# Altium footprint library 贴片.PcbLib: 190 footprints (part 12 of 13)
Each footprint in its own frame and in the unit in brackets; x right, y up, seen from the top. Pads: shape width x height; smd on the part's side, far side on the other; paste and mask are expansions set on the pad; w line width, h text height; cw(c..) or ccw(c..) is an arc to the next point about the centre after c.
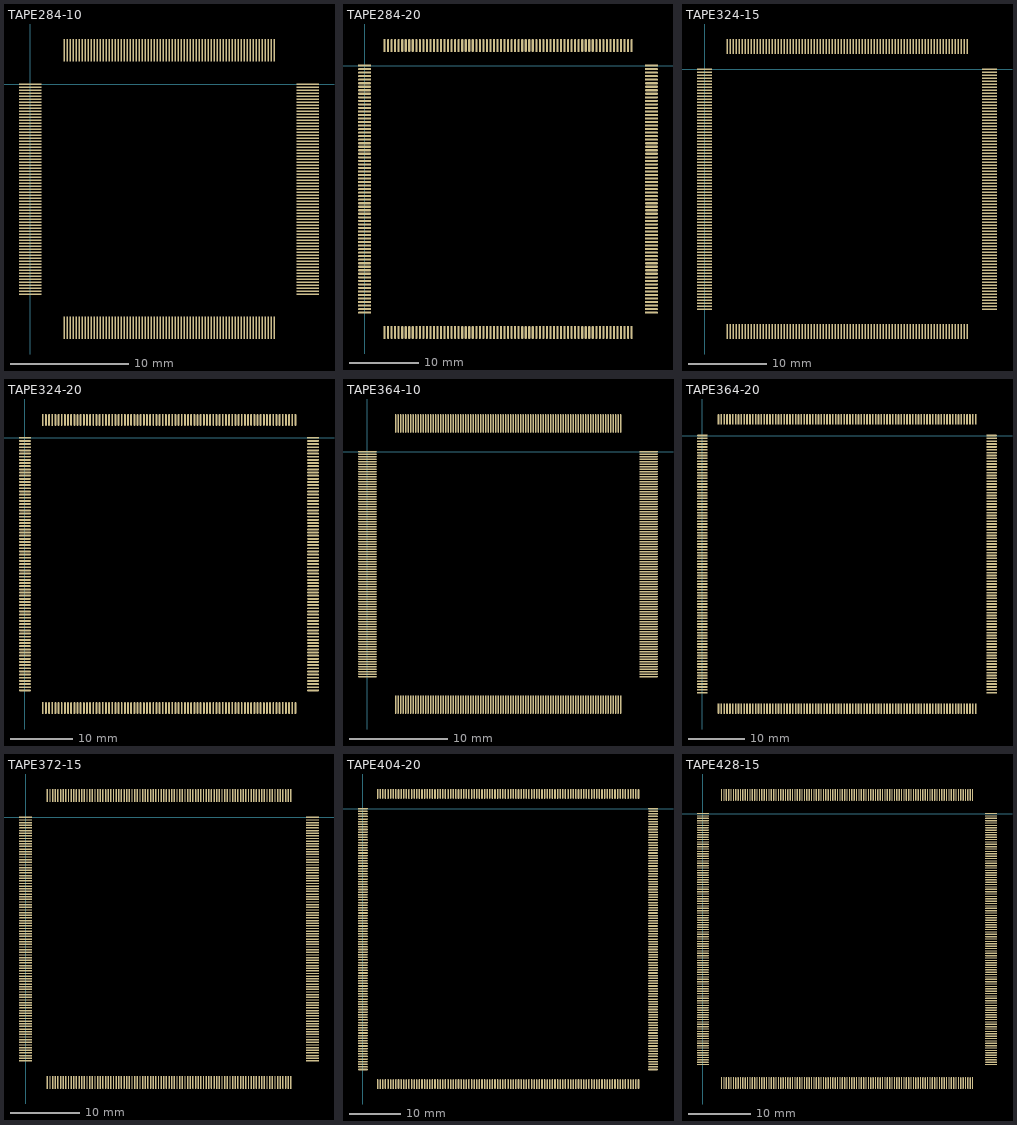
[diagram p11: the footprints below, top view; thin cyan lines are the x and y axes]

## TAPE284-10 [mil]
pads (284):
  oval 75x5 smd: 1(0,0) 2(0,-10) 3(0,-20) 4(0,-30) 5(0,-40) 6(0,-50) 7(0,-60) 8(0,-70) 9(0,-80) 10(0,-90) 11(0,-100) 12(0,-110) 13(0,-120) 14(0,-130) 15(0,-140) 16(0,-150) 17(0,-160) 18(0,-170) 19(0,-180) 20(0,-190) 21(0,-200) 22(0,-210) 23(0,-220) 24(0,-230) 25(0,-240) 26(0,-250) 27(0,-260) 28(0,-270) 29(0,-280) 30(0,-290) 31(0,-300) 32(0,-310) 33(0,-320) 34(0,-330) 35(0,-340) 36(0,-350) 37(0,-360) 38(0,-370) 39(0,-380) 40(0,-390) 41(0,-400) 42(0,-410) 43(0,-420) 44(0,-430) 45(0,-440) 46(0,-450) 47(0,-460) 48(0,-470) 49(0,-480) 50(0,-490) 51(0,-500) 52(0,-510) 53(0,-520) 54(0,-530) 55(0,-540) 56(0,-550) 57(0,-560) 58(0,-570) 59(0,-580) 60(0,-590) 61(0,-600) 62(0,-610) 63(0,-620) 64(0,-630) 65(0,-640) 66(0,-650) 67(0,-660) 68(0,-670) 69(0,-680) 70(0,-690) 71(0,-700) 143(925,-700) 144(925,-690) 145(925,-680) 146(925,-670) 147(925,-660) 148(925,-650) 149(925,-640) 150(925,-630) 151(925,-620) 152(925,-610) 153(925,-600) 154(925,-590) 155(925,-580) 156(925,-570) 157(925,-560) 158(925,-550) 159(925,-540) 160(925,-530) 161(925,-520) 162(925,-510) 163(925,-500) 164(925,-490) 165(925,-480) 166(925,-470) 167(925,-460) 168(925,-450) 169(925,-440) 170(925,-430) 171(925,-420) 172(925,-410) 173(925,-400) 174(925,-390) 175(925,-380) 176(925,-370) 177(925,-360) 178(925,-350) 179(925,-340) 180(925,-330) 181(925,-320) 182(925,-310) 183(925,-300) 184(925,-290) 185(925,-280) 186(925,-270) 187(925,-260) 188(925,-250) 189(925,-240) 190(925,-230) 191(925,-220) 192(925,-210) 193(925,-200) 194(925,-190) 195(925,-180) 196(925,-170) 197(925,-160) 198(925,-150) 199(925,-140) 200(925,-130) 201(925,-120) 202(925,-110) 203(925,-100) 204(925,-90) 205(925,-80) 206(925,-70) 207(925,-60) 208(925,-50) 209(925,-40) 210(925,-30) 211(925,-20) 212(925,-10) 213(925,0)
  oval 5x75 smd: 72(113,-812) 73(123,-812) 74(133,-812) 75(143,-812) 76(153,-812) 77(163,-812) 78(173,-812) 79(183,-812) 80(193,-812) 81(203,-812) 82(213,-812) 83(223,-812) 84(233,-812) 85(243,-812) 86(253,-812) 87(263,-812) 88(273,-812) 89(283,-812) 90(293,-812) 91(303,-812) 92(313,-812) 93(323,-812) 94(333,-812) 95(343,-812) 96(353,-812) 97(363,-812) 98(373,-812) 99(383,-812) 100(393,-812) 101(403,-812) 102(413,-812) 103(423,-812) 104(433,-812) 105(443,-812) 106(453,-812) 107(463,-812) 108(473,-812) 109(483,-812) 110(493,-812) 111(503,-812) 112(513,-812) 113(523,-812) 114(533,-812) 115(543,-812) 116(553,-812) 117(563,-812) 118(573,-812) 119(583,-812) 120(593,-812) 121(603,-812) 122(613,-812) 123(623,-812) 124(633,-812) 125(643,-812) 126(653,-812) 127(663,-812) 128(673,-812) 129(683,-812) 130(693,-812) 131(703,-812) 132(713,-812) 133(723,-812) 134(733,-812) 135(743,-812) 136(753,-812) 137(763,-812) 138(773,-812) 139(783,-812) 140(793,-812) 141(803,-812) 142(813,-812) 214(813,113) 215(803,113) 216(793,113) 217(783,113) 218(773,113) 219(763,113) 220(753,113) 221(743,113) 222(733,113) 223(723,113) 224(713,113) 225(703,113) 226(693,113) 227(683,113) 228(673,113) 229(663,113) 230(653,113) 231(643,113) 232(633,113) 233(623,113) 234(613,113) 235(603,113) 236(593,113) 237(583,113) 238(573,113) 239(563,113) 240(553,113) 241(543,113) 242(533,113) 243(523,113) 244(513,113) 245(503,113) 246(493,113) 247(483,113) 248(473,113) 249(463,113) 250(453,113) 251(443,113) 252(433,113) 253(423,113) 254(413,113) 255(403,113) 256(393,113) 257(383,113) 258(373,113) 259(363,113) 260(353,113) 261(343,113) 262(333,113) 263(323,113) 264(313,113) 265(303,113) 266(293,113) 267(283,113) 268(273,113) 269(263,113) 270(253,113) 271(243,113) 272(233,113) 273(223,113) 274(213,113) 275(203,113) 276(193,113) 277(183,113) 278(173,113) 279(163,113) 280(153,113) 281(143,113) 282(133,113) 283(123,113) 284(113,113)

## TAPE284-20 [mil]
pads (284):
  oval 75x12 smd: 1(0,0) 2(0,-20) 3(0,-40) 4(0,-60) 5(0,-80) 6(0,-100) 7(0,-120) 8(0,-140) 9(0,-160) 10(0,-180) 11(0,-200) 12(0,-220) 13(0,-240) 14(0,-260) 15(0,-280) 16(0,-300) 17(0,-320) 18(0,-340) 19(0,-360) 20(0,-380) 21(0,-400) 22(0,-420) 23(0,-440) 24(0,-460) 25(0,-480) 26(0,-500) 27(0,-520) 28(0,-540) 29(0,-560) 30(0,-580) 31(0,-600) 32(0,-620) 33(0,-640) 34(0,-660) 35(0,-680) 36(0,-700) 37(0,-720) 38(0,-740) 39(0,-760) 40(0,-780) 41(0,-800) 42(0,-820) 43(0,-840) 44(0,-860) 45(0,-880) 46(0,-900) 47(0,-920) 48(0,-940) 49(0,-960) 50(0,-980) 51(0,-1000) 52(0,-1020) 53(0,-1040) 54(0,-1060) 55(0,-1080) 56(0,-1100) 57(0,-1120) 58(0,-1140) 59(0,-1160) 60(0,-1180) 61(0,-1200) 62(0,-1220) 63(0,-1240) 64(0,-1260) 65(0,-1280) 66(0,-1300) 67(0,-1320) 68(0,-1340) 69(0,-1360) 70(0,-1380) 71(0,-1400) 143(1625,-1400) 144(1625,-1380) 145(1625,-1360) 146(1625,-1340) 147(1625,-1320) 148(1625,-1300) 149(1625,-1280) 150(1625,-1260) 151(1625,-1240) 152(1625,-1220) 153(1625,-1200) 154(1625,-1180) 155(1625,-1160) 156(1625,-1140) 157(1625,-1120) 158(1625,-1100) 159(1625,-1080) 160(1625,-1060) 161(1625,-1040) 162(1625,-1020) 163(1625,-1000) 164(1625,-980) 165(1625,-960) 166(1625,-940) 167(1625,-920) 168(1625,-900) 169(1625,-880) 170(1625,-860) 171(1625,-840) 172(1625,-820) 173(1625,-800) 174(1625,-780) 175(1625,-760) 176(1625,-740) 177(1625,-720) 178(1625,-700) 179(1625,-680) 180(1625,-660) 181(1625,-640) 182(1625,-620) 183(1625,-600) 184(1625,-580) 185(1625,-560) 186(1625,-540) 187(1625,-520) 188(1625,-500) 189(1625,-480) 190(1625,-460) 191(1625,-440) 192(1625,-420) 193(1625,-400) 194(1625,-380) 195(1625,-360) 196(1625,-340) 197(1625,-320) 198(1625,-300) 199(1625,-280) 200(1625,-260) 201(1625,-240) 202(1625,-220) 203(1625,-200) 204(1625,-180) 205(1625,-160) 206(1625,-140) 207(1625,-120) 208(1625,-100) 209(1625,-80) 210(1625,-60) 211(1625,-40) 212(1625,-20) 213(1625,0)
  oval 12x75 smd: 72(113,-1512) 73(133,-1512) 74(153,-1512) 75(173,-1512) 76(193,-1512) 77(213,-1512) 78(233,-1512) 79(253,-1512) 80(273,-1512) 81(293,-1512) 82(313,-1512) 83(333,-1512) 84(353,-1512) 85(373,-1512) 86(393,-1512) 87(413,-1512) 88(433,-1512) 89(453,-1512) 90(473,-1512) 91(493,-1512) 92(513,-1512) 93(533,-1512) 94(553,-1512) 95(573,-1512) 96(593,-1512) 97(613,-1512) 98(633,-1512) 99(653,-1512) 100(673,-1512) 101(693,-1512) 102(713,-1512) 103(733,-1512) 104(753,-1512) 105(773,-1512) 106(793,-1512) 107(813,-1512) 108(833,-1512) 109(853,-1512) 110(873,-1512) 111(893,-1512) 112(913,-1512) 113(933,-1512) 114(953,-1512) 115(973,-1512) 116(993,-1512) 117(1013,-1512) 118(1033,-1512) 119(1053,-1512) 120(1073,-1512) 121(1093,-1512) 122(1113,-1512) 123(1133,-1512) 124(1153,-1512) 125(1173,-1512) 126(1193,-1512) 127(1213,-1512) 128(1233,-1512) 129(1253,-1512) 130(1273,-1512) 131(1293,-1512) 132(1313,-1512) 133(1333,-1512) 134(1353,-1512) 135(1373,-1512) 136(1393,-1512) 137(1413,-1512) 138(1433,-1512) 139(1453,-1512) 140(1473,-1512) 141(1493,-1512) 142(1513,-1512) 214(1513,113) 215(1493,113) 216(1473,113) 217(1453,113) 218(1433,113) 219(1413,113) 220(1393,113) 221(1373,113) 222(1353,113) 223(1333,113) 224(1313,113) 225(1293,113) 226(1273,113) 227(1253,113) 228(1233,113) 229(1213,113) 230(1193,113) 231(1173,113) 232(1153,113) 233(1133,113) 234(1113,113) 235(1093,113) 236(1073,113) 237(1053,113) 238(1033,113) 239(1013,113) 240(993,113) 241(973,113) 242(953,113) 243(933,113) 244(913,113) 245(893,113) 246(873,113) 247(853,113) 248(833,113) 249(813,113) 250(793,113) 251(773,113) 252(753,113) 253(733,113) 254(713,113) 255(693,113) 256(673,113) 257(653,113) 258(633,113) 259(613,113) 260(593,113) 261(573,113) 262(553,113) 263(533,113) 264(513,113) 265(493,113) 266(473,113) 267(453,113) 268(433,113) 269(413,113) 270(393,113) 271(373,113) 272(353,113) 273(333,113) 274(313,113) 275(293,113) 276(273,113) 277(253,113) 278(233,113) 279(213,113) 280(193,113) 281(173,113) 282(153,113) 283(133,113) 284(113,113)

## TAPE324-15 [mil]
pads (324):
  oval 75x8 smd: 1(0,0) 2(0,-15) 3(0,-30) 4(0,-45) 5(0,-60) 6(0,-75) 7(0,-90) 8(0,-105) 9(0,-120) 10(0,-135) 11(0,-150) 12(0,-165) 13(0,-180) 14(0,-195) 15(0,-210) 16(0,-225) 17(0,-240) 18(0,-255) 19(0,-270) 20(0,-285) 21(0,-300) 22(0,-315) 23(0,-330) 24(0,-345) 25(0,-360) 26(0,-375) 27(0,-390) 28(0,-405) 29(0,-420) 30(0,-435) 31(0,-450) 32(0,-465) 33(0,-480) 34(0,-495) 35(0,-510) 36(0,-525) 37(0,-540) 38(0,-555) 39(0,-570) 40(0,-585) 41(0,-600) 42(0,-615) 43(0,-630) 44(0,-645) 45(0,-660) 46(0,-675) 47(0,-690) 48(0,-705) 49(0,-720) 50(0,-735) 51(0,-750) 52(0,-765) 53(0,-780) 54(0,-795) 55(0,-810) 56(0,-825) 57(0,-840) 58(0,-855) 59(0,-870) 60(0,-885) 61(0,-900) 62(0,-915) 63(0,-930) 64(0,-945) 65(0,-960) 66(0,-975) 67(0,-990) 68(0,-1005) 69(0,-1020) 70(0,-1035) 71(0,-1050) 72(0,-1065) 73(0,-1080) 74(0,-1095) 75(0,-1110) 76(0,-1125) 77(0,-1140) 78(0,-1155) 79(0,-1170) 80(0,-1185) 81(0,-1200) 163(1425,-1200) 164(1425,-1185) 165(1425,-1170) 166(1425,-1155) 167(1425,-1140) 168(1425,-1125) 169(1425,-1110) 170(1425,-1095) 171(1425,-1080) 172(1425,-1065) 173(1425,-1050) 174(1425,-1035) 175(1425,-1020) 176(1425,-1005) 177(1425,-990) 178(1425,-975) 179(1425,-960) 180(1425,-945) 181(1425,-930) 182(1425,-915) 183(1425,-900) 184(1425,-885) 185(1425,-870) 186(1425,-855) 187(1425,-840) 188(1425,-825) 189(1425,-810) 190(1425,-795) 191(1425,-780) 192(1425,-765) 193(1425,-750) 194(1425,-735) 195(1425,-720) 196(1425,-705) 197(1425,-690) 198(1425,-675) 199(1425,-660) 200(1425,-645) 201(1425,-630) 202(1425,-615) 203(1425,-600) 204(1425,-585) 205(1425,-570) 206(1425,-555) 207(1425,-540) 208(1425,-525) 209(1425,-510) 210(1425,-495) 211(1425,-480) 212(1425,-465) 213(1425,-450) 214(1425,-435) 215(1425,-420) 216(1425,-405) 217(1425,-390) 218(1425,-375) 219(1425,-360) 220(1425,-345) 221(1425,-330) 222(1425,-315) 223(1425,-300) 224(1425,-285) 225(1425,-270) 226(1425,-255) 227(1425,-240) 228(1425,-225) 229(1425,-210) 230(1425,-195) 231(1425,-180) 232(1425,-165) 233(1425,-150) 234(1425,-135) 235(1425,-120) 236(1425,-105) 237(1425,-90) 238(1425,-75) 239(1425,-60) 240(1425,-45) 241(1425,-30) 242(1425,-15) 243(1425,0)
  oval 8x75 smd: 82(113,-1312) 83(128,-1312) 84(143,-1312) 85(158,-1312) 86(173,-1312) 87(188,-1312) 88(203,-1312) 89(218,-1312) 90(233,-1312) 91(248,-1312) 92(263,-1312) 93(278,-1312) 94(293,-1312) 95(308,-1312) 96(323,-1312) 97(338,-1312) 98(353,-1312) 99(368,-1312) 100(383,-1312) 101(398,-1312) 102(413,-1312) 103(428,-1312) 104(443,-1312) 105(458,-1312) 106(473,-1312) 107(488,-1312) 108(503,-1312) 109(518,-1312) 110(533,-1312) 111(548,-1312) 112(563,-1312) 113(578,-1312) 114(593,-1312) 115(608,-1312) 116(623,-1312) 117(638,-1312) 118(653,-1312) 119(668,-1312) 120(683,-1312) 121(698,-1312) 122(713,-1312) 123(728,-1312) 124(743,-1312) 125(758,-1312) 126(773,-1312) 127(788,-1312) 128(803,-1312) 129(818,-1312) 130(833,-1312) 131(848,-1312) 132(863,-1312) 133(878,-1312) 134(893,-1312) 135(908,-1312) 136(923,-1312) 137(938,-1312) 138(953,-1312) 139(968,-1312) 140(983,-1312) 141(998,-1312) 142(1013,-1312) 143(1028,-1312) 144(1043,-1312) 145(1058,-1312) 146(1073,-1312) 147(1088,-1312) 148(1103,-1312) 149(1118,-1312) 150(1133,-1312) 151(1148,-1312) 152(1163,-1312) 153(1178,-1312) 154(1193,-1312) 155(1208,-1312) 156(1223,-1312) 157(1238,-1312) 158(1253,-1312) 159(1268,-1312) 160(1283,-1312) 161(1298,-1312) 162(1313,-1312) 244(1313,113) 245(1298,113) 246(1283,113) 247(1268,113) 248(1253,113) 249(1238,113) 250(1223,113) 251(1208,113) 252(1193,113) 253(1178,113) 254(1163,113) 255(1148,113) 256(1133,113) 257(1118,113) 258(1103,113) 259(1088,113) 260(1073,113) 261(1058,113) 262(1043,113) 263(1028,113) 264(1013,113) 265(998,113) 266(983,113) 267(968,113) 268(953,113) 269(938,113) 270(923,113) 271(908,113) 272(893,113) 273(878,113) 274(863,113) 275(848,113) 276(833,113) 277(818,113) 278(803,113) 279(788,113) 280(773,113) 281(758,113) 282(743,113) 283(728,113) 284(713,113) 285(698,113) 286(683,113) 287(668,113) 288(653,113) 289(638,113) 290(623,113) 291(608,113) 292(593,113) 293(578,113) 294(563,113) 295(548,113) 296(533,113) 297(518,113) 298(503,113) 299(488,113) 300(473,113) 301(458,113) 302(443,113) 303(428,113) 304(413,113) 305(398,113) 306(383,113) 307(368,113) 308(353,113) 309(338,113) 310(323,113) 311(308,113) 312(293,113) 313(278,113) 314(263,113) 315(248,113) 316(233,113) 317(218,113) 318(203,113) 319(188,113) 320(173,113) 321(158,113) 322(143,113) 323(128,113) 324(113,113)

## TAPE324-20 [mil]
pads (324):
  oval 75x12 smd: 1(0,0) 2(0,-20) 3(0,-40) 4(0,-60) 5(0,-80) 6(0,-100) 7(0,-120) 8(0,-140) 9(0,-160) 10(0,-180) 11(0,-200) 12(0,-220) 13(0,-240) 14(0,-260) 15(0,-280) 16(0,-300) 17(0,-320) 18(0,-340) 19(0,-360) 20(0,-380) 21(0,-400) 22(0,-420) 23(0,-440) 24(0,-460) 25(0,-480) 26(0,-500) 27(0,-520) 28(0,-540) 29(0,-560) 30(0,-580) 31(0,-600) 32(0,-620) 33(0,-640) 34(0,-660) 35(0,-680) 36(0,-700) 37(0,-720) 38(0,-740) 39(0,-760) 40(0,-780) 41(0,-800) 42(0,-820) 43(0,-840) 44(0,-860) 45(0,-880) 46(0,-900) 47(0,-920) 48(0,-940) 49(0,-960) 50(0,-980) 51(0,-1000) 52(0,-1020) 53(0,-1040) 54(0,-1060) 55(0,-1080) 56(0,-1100) 57(0,-1120) 58(0,-1140) 59(0,-1160) 60(0,-1180) 61(0,-1200) 62(0,-1220) 63(0,-1240) 64(0,-1260) 65(0,-1280) 66(0,-1300) 67(0,-1320) 68(0,-1340) 69(0,-1360) 70(0,-1380) 71(0,-1400) 72(0,-1420) 73(0,-1440) 74(0,-1460) 75(0,-1480) 76(0,-1500) 77(0,-1520) 78(0,-1540) 79(0,-1560) 80(0,-1580) 81(0,-1600) 163(1825,-1600) 164(1825,-1580) 165(1825,-1560) 166(1825,-1540) 167(1825,-1520) 168(1825,-1500) 169(1825,-1480) 170(1825,-1460) 171(1825,-1440) 172(1825,-1420) 173(1825,-1400) 174(1825,-1380) 175(1825,-1360) 176(1825,-1340) 177(1825,-1320) 178(1825,-1300) 179(1825,-1280) 180(1825,-1260) 181(1825,-1240) 182(1825,-1220) 183(1825,-1200) 184(1825,-1180) 185(1825,-1160) 186(1825,-1140) 187(1825,-1120) 188(1825,-1100) 189(1825,-1080) 190(1825,-1060) 191(1825,-1040) 192(1825,-1020) 193(1825,-1000) 194(1825,-980) 195(1825,-960) 196(1825,-940) 197(1825,-920) 198(1825,-900) 199(1825,-880) 200(1825,-860) 201(1825,-840) 202(1825,-820) 203(1825,-800) 204(1825,-780) 205(1825,-760) 206(1825,-740) 207(1825,-720) 208(1825,-700) 209(1825,-680) 210(1825,-660) 211(1825,-640) 212(1825,-620) 213(1825,-600) 214(1825,-580) 215(1825,-560) 216(1825,-540) 217(1825,-520) 218(1825,-500) 219(1825,-480) 220(1825,-460) 221(1825,-440) 222(1825,-420) 223(1825,-400) 224(1825,-380) 225(1825,-360) 226(1825,-340) 227(1825,-320) 228(1825,-300) 229(1825,-280) 230(1825,-260) 231(1825,-240) 232(1825,-220) 233(1825,-200) 234(1825,-180) 235(1825,-160) 236(1825,-140) 237(1825,-120) 238(1825,-100) 239(1825,-80) 240(1825,-60) 241(1825,-40) 242(1825,-20) 243(1825,0)
  oval 12x75 smd: 82(113,-1712) 83(133,-1712) 84(153,-1712) 85(173,-1712) 86(193,-1712) 87(213,-1712) 88(233,-1712) 89(253,-1712) 90(273,-1712) 91(293,-1712) 92(313,-1712) 93(333,-1712) 94(353,-1712) 95(373,-1712) 96(393,-1712) 97(413,-1712) 98(433,-1712) 99(453,-1712) 100(473,-1712) 101(493,-1712) 102(513,-1712) 103(533,-1712) 104(553,-1712) 105(573,-1712) 106(593,-1712) 107(613,-1712) 108(633,-1712) 109(653,-1712) 110(673,-1712) 111(693,-1712) 112(713,-1712) 113(733,-1712) 114(753,-1712) 115(773,-1712) 116(793,-1712) 117(813,-1712) 118(833,-1712) 119(853,-1712) 120(873,-1712) 121(893,-1712) 122(913,-1712) 123(933,-1712) 124(953,-1712) 125(973,-1712) 126(993,-1712) 127(1013,-1712) 128(1033,-1712) 129(1053,-1712) 130(1073,-1712) 131(1093,-1712) 132(1113,-1712) 133(1133,-1712) 134(1153,-1712) 135(1173,-1712) 136(1193,-1712) 137(1213,-1712) 138(1233,-1712) 139(1253,-1712) 140(1273,-1712) 141(1293,-1712) 142(1313,-1712) 143(1333,-1712) 144(1353,-1712) 145(1373,-1712) 146(1393,-1712) 147(1413,-1712) 148(1433,-1712) 149(1453,-1712) 150(1473,-1712) 151(1493,-1712) 152(1513,-1712) 153(1533,-1712) 154(1553,-1712) 155(1573,-1712) 156(1593,-1712) 157(1613,-1712) 158(1633,-1712) 159(1653,-1712) 160(1673,-1712) 161(1693,-1712) 162(1713,-1712) 244(1713,113) 245(1693,113) 246(1673,113) 247(1653,113) 248(1633,113) 249(1613,113) 250(1593,113) 251(1573,113) 252(1553,113) 253(1533,113) 254(1513,113) 255(1493,113) 256(1473,113) 257(1453,113) 258(1433,113) 259(1413,113) 260(1393,113) 261(1373,113) 262(1353,113) 263(1333,113) 264(1313,113) 265(1293,113) 266(1273,113) 267(1253,113) 268(1233,113) 269(1213,113) 270(1193,113) 271(1173,113) 272(1153,113) 273(1133,113) 274(1113,113) 275(1093,113) 276(1073,113) 277(1053,113) 278(1033,113) 279(1013,113) 280(993,113) 281(973,113) 282(953,113) 283(933,113) 284(913,113) 285(893,113) 286(873,113) 287(853,113) 288(833,113) 289(813,113) 290(793,113) 291(773,113) 292(753,113) 293(733,113) 294(713,113) 295(693,113) 296(673,113) 297(653,113) 298(633,113) 299(613,113) 300(593,113) 301(573,113) 302(553,113) 303(533,113) 304(513,113) 305(493,113) 306(473,113) 307(453,113) 308(433,113) 309(413,113) 310(393,113) 311(373,113) 312(353,113) 313(333,113) 314(313,113) 315(293,113) 316(273,113) 317(253,113) 318(233,113) 319(213,113) 320(193,113) 321(173,113) 322(153,113) 323(133,113) 324(113,113)

## TAPE364-10 [mil]
pads (364):
  oval 75x5 smd: 1(0,0) 2(0,-10) 3(0,-20) 4(0,-30) 5(0,-40) 6(0,-50) 7(0,-60) 8(0,-70) 9(0,-80) 10(0,-90) 11(0,-100) 12(0,-110) 13(0,-120) 14(0,-130) 15(0,-140) 16(0,-150) 17(0,-160) 18(0,-170) 19(0,-180) 20(0,-190) 21(0,-200) 22(0,-210) 23(0,-220) 24(0,-230) 25(0,-240) 26(0,-250) 27(0,-260) 28(0,-270) 29(0,-280) 30(0,-290) 31(0,-300) 32(0,-310) 33(0,-320) 34(0,-330) 35(0,-340) 36(0,-350) 37(0,-360) 38(0,-370) 39(0,-380) 40(0,-390) 41(0,-400) 42(0,-410) 43(0,-420) 44(0,-430) 45(0,-440) 46(0,-450) 47(0,-460) 48(0,-470) 49(0,-480) 50(0,-490) 51(0,-500) 52(0,-510) 53(0,-520) 54(0,-530) 55(0,-540) 56(0,-550) 57(0,-560) 58(0,-570) 59(0,-580) 60(0,-590) 61(0,-600) 62(0,-610) 63(0,-620) 64(0,-630) 65(0,-640) 66(0,-650) 67(0,-660) 68(0,-670) 69(0,-680) 70(0,-690) 71(0,-700) 72(0,-710) 73(0,-720) 74(0,-730) 75(0,-740) 76(0,-750) 77(0,-760) 78(0,-770) 79(0,-780) 80(0,-790) 81(0,-800) 82(0,-810) 83(0,-820) 84(0,-830) 85(0,-840) 86(0,-850) 87(0,-860) 88(0,-870) 89(0,-880) 90(0,-890) 91(0,-900) 183(1125,-900) 184(1125,-890) 185(1125,-880) 186(1125,-870) 187(1125,-860) 188(1125,-850) 189(1125,-840) 190(1125,-830) 191(1125,-820) 192(1125,-810) 193(1125,-800) 194(1125,-790) 195(1125,-780) 196(1125,-770) 197(1125,-760) 198(1125,-750) 199(1125,-740) 200(1125,-730) 201(1125,-720) 202(1125,-710) 203(1125,-700) 204(1125,-690) 205(1125,-680) 206(1125,-670) 207(1125,-660) 208(1125,-650) 209(1125,-640) 210(1125,-630) 211(1125,-620) 212(1125,-610) 213(1125,-600) 214(1125,-590) 215(1125,-580) 216(1125,-570) 217(1125,-560) 218(1125,-550) 219(1125,-540) 220(1125,-530) 221(1125,-520) 222(1125,-510) 223(1125,-500) 224(1125,-490) 225(1125,-480) 226(1125,-470) 227(1125,-460) 228(1125,-450) 229(1125,-440) 230(1125,-430) 231(1125,-420) 232(1125,-410) 233(1125,-400) 234(1125,-390) 235(1125,-380) 236(1125,-370) 237(1125,-360) 238(1125,-350) 239(1125,-340) 240(1125,-330) 241(1125,-320) 242(1125,-310) 243(1125,-300) 244(1125,-290) 245(1125,-280) 246(1125,-270) 247(1125,-260) 248(1125,-250) 249(1125,-240) 250(1125,-230) 251(1125,-220) 252(1125,-210) 253(1125,-200) 254(1125,-190) 255(1125,-180) 256(1125,-170) 257(1125,-160) 258(1125,-150) 259(1125,-140) 260(1125,-130) 261(1125,-120) 262(1125,-110) 263(1125,-100) 264(1125,-90) 265(1125,-80) 266(1125,-70) 267(1125,-60) 268(1125,-50) 269(1125,-40) 270(1125,-30) 271(1125,-20) 272(1125,-10) 273(1125,0)
  oval 5x75 smd: 92(113,-1012) 93(123,-1012) 94(133,-1012) 95(143,-1012) 96(153,-1012) 97(163,-1012) 98(173,-1012) 99(183,-1012) 100(193,-1012) 101(203,-1012) 102(213,-1012) 103(223,-1012) 104(233,-1012) 105(243,-1012) 106(253,-1012) 107(263,-1012) 108(273,-1012) 109(283,-1012) 110(293,-1012) 111(303,-1012) 112(313,-1012) 113(323,-1012) 114(333,-1012) 115(343,-1012) 116(353,-1012) 117(363,-1012) 118(373,-1012) 119(383,-1012) 120(393,-1012) 121(403,-1012) 122(413,-1012) 123(423,-1012) 124(433,-1012) 125(443,-1012) 126(453,-1012) 127(463,-1012) 128(473,-1012) 129(483,-1012) 130(493,-1012) 131(503,-1012) 132(513,-1012) 133(523,-1012) 134(533,-1012) 135(543,-1012) 136(553,-1012) 137(563,-1012) 138(573,-1012) 139(583,-1012) 140(593,-1012) 141(603,-1012) 142(613,-1012) 143(623,-1012) 144(633,-1012) 145(643,-1012) 146(653,-1012) 147(663,-1012) 148(673,-1012) 149(683,-1012) 150(693,-1012) 151(703,-1012) 152(713,-1012) 153(723,-1012) 154(733,-1012) 155(743,-1012) 156(753,-1012) 157(763,-1012) 158(773,-1012) 159(783,-1012) 160(793,-1012) 161(803,-1012) 162(813,-1012) 163(823,-1012) 164(833,-1012) 165(843,-1012) 166(853,-1012) 167(863,-1012) 168(873,-1012) 169(883,-1012) 170(893,-1012) 171(903,-1012) 172(913,-1012) 173(923,-1012) 174(933,-1012) 175(943,-1012) 176(953,-1012) 177(963,-1012) 178(973,-1012) 179(983,-1012) 180(993,-1012) 181(1003,-1012) 182(1013,-1012) 274(1013,113) 275(1003,113) 276(993,113) 277(983,113) 278(973,113) 279(963,113) 280(953,113) 281(943,113) 282(933,113) 283(923,113) 284(913,113) 285(903,113) 286(893,113) 287(883,113) 288(873,113) 289(863,113) 290(853,113) 291(843,113) 292(833,113) 293(823,113) 294(813,113) 295(803,113) 296(793,113) 297(783,113) 298(773,113) 299(763,113) 300(753,113) 301(743,113) 302(733,113) 303(723,113) 304(713,113) 305(703,113) 306(693,113) 307(683,113) 308(673,113) 309(663,113) 310(653,113) 311(643,113) 312(633,113) 313(623,113) 314(613,113) 315(603,113) 316(593,113) 317(583,113) 318(573,113) 319(563,113) 320(553,113) 321(543,113) 322(533,113) 323(523,113) 324(513,113) 325(503,113) 326(493,113) 327(483,113) 328(473,113) 329(463,113) 330(453,113) 331(443,113) 332(433,113) 333(423,113) 334(413,113) 335(403,113) 336(393,113) 337(383,113) 338(373,113) 339(363,113) 340(353,113) 341(343,113) 342(333,113) 343(323,113) 344(313,113) 345(303,113) 346(293,113) 347(283,113) 348(273,113) 349(263,113) 350(253,113) 351(243,113) 352(233,113) 353(223,113) 354(213,113) 355(203,113) 356(193,113) 357(183,113) 358(173,113) 359(163,113) 360(153,113) 361(143,113) 362(133,113) 363(123,113) 364(113,113)

## TAPE364-20 [mil]
pads (364):
  oval 75x12 smd: 1(0,0) 2(0,-20) 3(0,-40) 4(0,-60) 5(0,-80) 6(0,-100) 7(0,-120) 8(0,-140) 9(0,-160) 10(0,-180) 11(0,-200) 12(0,-220) 13(0,-240) 14(0,-260) 15(0,-280) 16(0,-300) 17(0,-320) 18(0,-340) 19(0,-360) 20(0,-380) 21(0,-400) 22(0,-420) 23(0,-440) 24(0,-460) 25(0,-480) 26(0,-500) 27(0,-520) 28(0,-540) 29(0,-560) 30(0,-580) 31(0,-600) 32(0,-620) 33(0,-640) 34(0,-660) 35(0,-680) 36(0,-700) 37(0,-720) 38(0,-740) 39(0,-760) 40(0,-780) 41(0,-800) 42(0,-820) 43(0,-840) 44(0,-860) 45(0,-880) 46(0,-900) 47(0,-920) 48(0,-940) 49(0,-960) 50(0,-980) 51(0,-1000) 52(0,-1020) 53(0,-1040) 54(0,-1060) 55(0,-1080) 56(0,-1100) 57(0,-1120) 58(0,-1140) 59(0,-1160) 60(0,-1180) 61(0,-1200) 62(0,-1220) 63(0,-1240) 64(0,-1260) 65(0,-1280) 66(0,-1300) 67(0,-1320) 68(0,-1340) 69(0,-1360) 70(0,-1380) 71(0,-1400) 72(0,-1420) 73(0,-1440) 74(0,-1460) 75(0,-1480) 76(0,-1500) 77(0,-1520) 78(0,-1540) 79(0,-1560) 80(0,-1580) 81(0,-1600) 82(0,-1620) 83(0,-1640) 84(0,-1660) 85(0,-1680) 86(0,-1700) 87(0,-1720) 88(0,-1740) 89(0,-1760) 90(0,-1780) 91(0,-1800) 183(2025,-1800) 184(2025,-1780) 185(2025,-1760) 186(2025,-1740) 187(2025,-1720) 188(2025,-1700) 189(2025,-1680) 190(2025,-1660) 191(2025,-1640) 192(2025,-1620) 193(2025,-1600) 194(2025,-1580) 195(2025,-1560) 196(2025,-1540) 197(2025,-1520) 198(2025,-1500) 199(2025,-1480) 200(2025,-1460) 201(2025,-1440) 202(2025,-1420) 203(2025,-1400) 204(2025,-1380) 205(2025,-1360) 206(2025,-1340) 207(2025,-1320) 208(2025,-1300) 209(2025,-1280) 210(2025,-1260) 211(2025,-1240) 212(2025,-1220) 213(2025,-1200) 214(2025,-1180) 215(2025,-1160) 216(2025,-1140) 217(2025,-1120) 218(2025,-1100) 219(2025,-1080) 220(2025,-1060) 221(2025,-1040) 222(2025,-1020) 223(2025,-1000) 224(2025,-980) 225(2025,-960) 226(2025,-940) 227(2025,-920) 228(2025,-900) 229(2025,-880) 230(2025,-860) 231(2025,-840) 232(2025,-820) 233(2025,-800) 234(2025,-780) 235(2025,-760) 236(2025,-740) 237(2025,-720) 238(2025,-700) 239(2025,-680) 240(2025,-660) 241(2025,-640) 242(2025,-620) 243(2025,-600) 244(2025,-580) 245(2025,-560) 246(2025,-540) 247(2025,-520) 248(2025,-500) 249(2025,-480) 250(2025,-460) 251(2025,-440) 252(2025,-420) 253(2025,-400) 254(2025,-380) 255(2025,-360) 256(2025,-340) 257(2025,-320) 258(2025,-300) 259(2025,-280) 260(2025,-260) 261(2025,-240) 262(2025,-220) 263(2025,-200) 264(2025,-180) 265(2025,-160) 266(2025,-140) 267(2025,-120) 268(2025,-100) 269(2025,-80) 270(2025,-60) 271(2025,-40) 272(2025,-20) 273(2025,0)
  oval 12x75 smd: 92(113,-1912) 93(133,-1912) 94(153,-1912) 95(173,-1912) 96(193,-1912) 97(213,-1912) 98(233,-1912) 99(253,-1912) 100(273,-1912) 101(293,-1912) 102(313,-1912) 103(333,-1912) 104(353,-1912) 105(373,-1912) 106(393,-1912) 107(413,-1912) 108(433,-1912) 109(453,-1912) 110(473,-1912) 111(493,-1912) 112(513,-1912) 113(533,-1912) 114(553,-1912) 115(573,-1912) 116(593,-1912) 117(613,-1912) 118(633,-1912) 119(653,-1912) 120(673,-1912) 121(693,-1912) 122(713,-1912) 123(733,-1912) 124(753,-1912) 125(773,-1912) 126(793,-1912) 127(813,-1912) 128(833,-1912) 129(853,-1912) 130(873,-1912) 131(893,-1912) 132(913,-1912) 133(933,-1912) 134(953,-1912) 135(973,-1912) 136(993,-1912) 137(1013,-1912) 138(1033,-1912) 139(1053,-1912) 140(1073,-1912) 141(1093,-1912) 142(1113,-1912) 143(1133,-1912) 144(1153,-1912) 145(1173,-1912) 146(1193,-1912) 147(1213,-1912) 148(1233,-1912) 149(1253,-1912) 150(1273,-1912) 151(1293,-1912) 152(1313,-1912) 153(1333,-1912) 154(1353,-1912) 155(1373,-1912) 156(1393,-1912) 157(1413,-1912) 158(1433,-1912) 159(1453,-1912) 160(1473,-1912) 161(1493,-1912) 162(1513,-1912) 163(1533,-1912) 164(1553,-1912) 165(1573,-1912) 166(1593,-1912) 167(1613,-1912) 168(1633,-1912) 169(1653,-1912) 170(1673,-1912) 171(1693,-1912) 172(1713,-1912) 173(1733,-1912) 174(1753,-1912) 175(1773,-1912) 176(1793,-1912) 177(1813,-1912) 178(1833,-1912) 179(1853,-1912) 180(1873,-1912) 181(1893,-1912) 182(1913,-1912) 274(1913,113) 275(1893,113) 276(1873,113) 277(1853,113) 278(1833,113) 279(1813,113) 280(1793,113) 281(1773,113) 282(1753,113) 283(1733,113) 284(1713,113) 285(1693,113) 286(1673,113) 287(1653,113) 288(1633,113) 289(1613,113) 290(1593,113) 291(1573,113) 292(1553,113) 293(1533,113) 294(1513,113) 295(1493,113) 296(1473,113) 297(1453,113) 298(1433,113) 299(1413,113) 300(1393,113) 301(1373,113) 302(1353,113) 303(1333,113) 304(1313,113) 305(1293,113) 306(1273,113) 307(1253,113) 308(1233,113) 309(1213,113) 310(1193,113) 311(1173,113) 312(1153,113) 313(1133,113) 314(1113,113) 315(1093,113) 316(1073,113) 317(1053,113) 318(1033,113) 319(1013,113) 320(993,113) 321(973,113) 322(953,113) 323(933,113) 324(913,113) 325(893,113) 326(873,113) 327(853,113) 328(833,113) 329(813,113) 330(793,113) 331(773,113) 332(753,113) 333(733,113) 334(713,113) 335(693,113) 336(673,113) 337(653,113) 338(633,113) 339(613,113) 340(593,113) 341(573,113) 342(553,113) 343(533,113) 344(513,113) 345(493,113) 346(473,113) 347(453,113) 348(433,113) 349(413,113) 350(393,113) 351(373,113) 352(353,113) 353(333,113) 354(313,113) 355(293,113) 356(273,113) 357(253,113) 358(233,113) 359(213,113) 360(193,113) 361(173,113) 362(153,113) 363(133,113) 364(113,113)

## TAPE372-15 [mil]
pads (372):
  oval 75x8 smd: 1(0,0) 2(0,-15) 3(0,-30) 4(0,-45) 5(0,-60) 6(0,-75) 7(0,-90) 8(0,-105) 9(0,-120) 10(0,-135) 11(0,-150) 12(0,-165) 13(0,-180) 14(0,-195) 15(0,-210) 16(0,-225) 17(0,-240) 18(0,-255) 19(0,-270) 20(0,-285) 21(0,-300) 22(0,-315) 23(0,-330) 24(0,-345) 25(0,-360) 26(0,-375) 27(0,-390) 28(0,-405) 29(0,-420) 30(0,-435) 31(0,-450) 32(0,-465) 33(0,-480) 34(0,-495) 35(0,-510) 36(0,-525) 37(0,-540) 38(0,-555) 39(0,-570) 40(0,-585) 41(0,-600) 42(0,-615) 43(0,-630) 44(0,-645) 45(0,-660) 46(0,-675) 47(0,-690) 48(0,-705) 49(0,-720) 50(0,-735) 51(0,-750) 52(0,-765) 53(0,-780) 54(0,-795) 55(0,-810) 56(0,-825) 57(0,-840) 58(0,-855) 59(0,-870) 60(0,-885) 61(0,-900) 62(0,-915) 63(0,-930) 64(0,-945) 65(0,-960) 66(0,-975) 67(0,-990) 68(0,-1005) 69(0,-1020) 70(0,-1035) 71(0,-1050) 72(0,-1065) 73(0,-1080) 74(0,-1095) 75(0,-1110) 76(0,-1125) 77(0,-1140) 78(0,-1155) 79(0,-1170) 80(0,-1185) 81(0,-1200) 82(0,-1215) 83(0,-1230) 84(0,-1245) 85(0,-1260) 86(0,-1275) 87(0,-1290) 88(0,-1305) 89(0,-1320) 90(0,-1335) 91(0,-1350) 92(0,-1365) 93(0,-1380) 187(1625,-1380) 188(1625,-1365) 189(1625,-1350) 190(1625,-1335) 191(1625,-1320) 192(1625,-1305) 193(1625,-1290) 194(1625,-1275) 195(1625,-1260) 196(1625,-1245) 197(1625,-1230) 198(1625,-1215) 199(1625,-1200) 200(1625,-1185) 201(1625,-1170) 202(1625,-1155) 203(1625,-1140) 204(1625,-1125) 205(1625,-1110) 206(1625,-1095) 207(1625,-1080) 208(1625,-1065) 209(1625,-1050) 210(1625,-1035) 211(1625,-1020) 212(1625,-1005) 213(1625,-990) 214(1625,-975) 215(1625,-960) 216(1625,-945) 217(1625,-930) 218(1625,-915) 219(1625,-900) 220(1625,-885) 221(1625,-870) 222(1625,-855) 223(1625,-840) 224(1625,-825) 225(1625,-810) 226(1625,-795) 227(1625,-780) 228(1625,-765) 229(1625,-750) 230(1625,-735) 231(1625,-720) 232(1625,-705) 233(1625,-690) 234(1625,-675) 235(1625,-660) 236(1625,-645) 237(1625,-630) 238(1625,-615) 239(1625,-600) 240(1625,-585) 241(1625,-570) 242(1625,-555) 243(1625,-540) 244(1625,-525) 245(1625,-510) 246(1625,-495) 247(1625,-480) 248(1625,-465) 249(1625,-450) 250(1625,-435) 251(1625,-420) 252(1625,-405) 253(1625,-390) 254(1625,-375) 255(1625,-360) 256(1625,-345) 257(1625,-330) 258(1625,-315) 259(1625,-300) 260(1625,-285) 261(1625,-270) 262(1625,-255) 263(1625,-240) 264(1625,-225) 265(1625,-210) 266(1625,-195) 267(1625,-180) 268(1625,-165) 269(1625,-150) 270(1625,-135) 271(1625,-120) 272(1625,-105) 273(1625,-90) 274(1625,-75) 275(1625,-60) 276(1625,-45) 277(1625,-30) 278(1625,-15) 279(1625,0)
  oval 8x75 smd: 94(123,-1502) 95(138,-1502) 96(153,-1502) 97(168,-1502) 98(183,-1502) 99(198,-1502) 100(213,-1502) 101(228,-1502) 102(243,-1502) 103(258,-1502) 104(273,-1502) 105(288,-1502) 106(303,-1502) 107(318,-1502) 108(333,-1502) 109(348,-1502) 110(363,-1502) 111(378,-1502) 112(393,-1502) 113(408,-1502) 114(423,-1502) 115(438,-1502) 116(453,-1502) 117(468,-1502) 118(483,-1502) 119(498,-1502) 120(513,-1502) 121(528,-1502) 122(543,-1502) 123(558,-1502) 124(573,-1502) 125(588,-1502) 126(603,-1502) 127(618,-1502) 128(633,-1502) 129(648,-1502) 130(663,-1502) 131(678,-1502) 132(693,-1502) 133(708,-1502) 134(723,-1502) 135(738,-1502) 136(753,-1502) 137(768,-1502) 138(783,-1502) 139(798,-1502) 140(813,-1502) 141(828,-1502) 142(843,-1502) 143(858,-1502) 144(873,-1502) 145(888,-1502) 146(903,-1502) 147(918,-1502) 148(933,-1502) 149(948,-1502) 150(963,-1502) 151(978,-1502) 152(993,-1502) 153(1008,-1502) 154(1023,-1502) 155(1038,-1502) 156(1053,-1502) 157(1068,-1502) 158(1083,-1502) 159(1098,-1502) 160(1113,-1502) 161(1128,-1502) 162(1143,-1502) 163(1158,-1502) 164(1173,-1502) 165(1188,-1502) 166(1203,-1502) 167(1218,-1502) 168(1233,-1502) 169(1248,-1502) 170(1263,-1502) 171(1278,-1502) 172(1293,-1502) 173(1308,-1502) 174(1323,-1502) 175(1338,-1502) 176(1353,-1502) 177(1368,-1502) 178(1383,-1502) 179(1398,-1502) 180(1413,-1502) 181(1428,-1502) 182(1443,-1502) 183(1458,-1502) 184(1473,-1502) 185(1488,-1502) 186(1503,-1502) 280(1503,123) 281(1488,123) 282(1473,123) 283(1458,123) 284(1443,123) 285(1428,123) 286(1413,123) 287(1398,123) 288(1383,123) 289(1368,123) 290(1353,123) 291(1338,123) 292(1323,123) 293(1308,123) 294(1293,123) 295(1278,123) 296(1263,123) 297(1248,123) 298(1233,123) 299(1218,123) 300(1203,123) 301(1188,123) 302(1173,123) 303(1158,123) 304(1143,123) 305(1128,123) 306(1113,123) 307(1098,123) 308(1083,123) 309(1068,123) 310(1053,123) 311(1038,123) 312(1023,123) 313(1008,123) 314(993,123) 315(978,123) 316(963,123) 317(948,123) 318(933,123) 319(918,123) 320(903,123) 321(888,123) 322(873,123) 323(858,123) 324(843,123) 325(828,123) 326(813,123) 327(798,123) 328(783,123) 329(768,123) 330(753,123) 331(738,123) 332(723,123) 333(708,123) 334(693,123) 335(678,123) 336(663,123) 337(648,123) 338(633,123) 339(618,123) 340(603,123) 341(588,123) 342(573,123) 343(558,123) 344(543,123) 345(528,123) 346(513,123) 347(498,123) 348(483,123) 349(468,123) 350(453,123) 351(438,123) 352(423,123) 353(408,123) 354(393,123) 355(378,123) 356(363,123) 357(348,123) 358(333,123) 359(318,123) 360(303,123) 361(288,123) 362(273,123) 363(258,123) 364(243,123) 365(228,123) 366(213,123) 367(198,123) 368(183,123) 369(168,123) 370(153,123) 371(138,123) 372(123,123)

## TAPE404-20 [mil]
pads (404):
  oval 75x12 smd: 1(0,0) 2(0,-20) 3(0,-40) 4(0,-60) 5(0,-80) 6(0,-100) 7(0,-120) 8(0,-140) 9(0,-160) 10(0,-180) 11(0,-200) 12(0,-220) 13(0,-240) 14(0,-260) 15(0,-280) 16(0,-300) 17(0,-320) 18(0,-340) 19(0,-360) 20(0,-380) 21(0,-400) 22(0,-420) 23(0,-440) 24(0,-460) 25(0,-480) 26(0,-500) 27(0,-520) 28(0,-540) 29(0,-560) 30(0,-580) 31(0,-600) 32(0,-620) 33(0,-640) 34(0,-660) 35(0,-680) 36(0,-700) 37(0,-720) 38(0,-740) 39(0,-760) 40(0,-780) 41(0,-800) 42(0,-820) 43(0,-840) 44(0,-860) 45(0,-880) 46(0,-900) 47(0,-920) 48(0,-940) 49(0,-960) 50(0,-980) 51(0,-1000) 52(0,-1020) 53(0,-1040) 54(0,-1060) 55(0,-1080) 56(0,-1100) 57(0,-1120) 58(0,-1140) 59(0,-1160) 60(0,-1180) 61(0,-1200) 62(0,-1220) 63(0,-1240) 64(0,-1260) 65(0,-1280) 66(0,-1300) 67(0,-1320) 68(0,-1340) 69(0,-1360) 70(0,-1380) 71(0,-1400) 72(0,-1420) 73(0,-1440) 74(0,-1460) 75(0,-1480) 76(0,-1500) 77(0,-1520) 78(0,-1540) 79(0,-1560) 80(0,-1580) 81(0,-1600) 82(0,-1620) 83(0,-1640) 84(0,-1660) 85(0,-1680) 86(0,-1700) 87(0,-1720) 88(0,-1740) 89(0,-1760) 90(0,-1780) 91(0,-1800) 92(0,-1820) 93(0,-1840) 94(0,-1860) 95(0,-1880) 96(0,-1900) 97(0,-1920) 98(0,-1940) 99(0,-1960) 100(0,-1980) 101(0,-2000) 203(2225,-2000) 204(2225,-1980) 205(2225,-1960) 206(2225,-1940) 207(2225,-1920) 208(2225,-1900) 209(2225,-1880) 210(2225,-1860) 211(2225,-1840) 212(2225,-1820) 213(2225,-1800) 214(2225,-1780) 215(2225,-1760) 216(2225,-1740) 217(2225,-1720) 218(2225,-1700) 219(2225,-1680) 220(2225,-1660) 221(2225,-1640) 222(2225,-1620) 223(2225,-1600) 224(2225,-1580) 225(2225,-1560) 226(2225,-1540) 227(2225,-1520) 228(2225,-1500) 229(2225,-1480) 230(2225,-1460) 231(2225,-1440) 232(2225,-1420) 233(2225,-1400) 234(2225,-1380) 235(2225,-1360) 236(2225,-1340) 237(2225,-1320) 238(2225,-1300) 239(2225,-1280) 240(2225,-1260) 241(2225,-1240) 242(2225,-1220) 243(2225,-1200) 244(2225,-1180) 245(2225,-1160) 246(2225,-1140) 247(2225,-1120) 248(2225,-1100) 249(2225,-1080) 250(2225,-1060) 251(2225,-1040) 252(2225,-1020) 253(2225,-1000) 254(2225,-980) 255(2225,-960) 256(2225,-940) 257(2225,-920) 258(2225,-900) 259(2225,-880) 260(2225,-860) 261(2225,-840) 262(2225,-820) 263(2225,-800) 264(2225,-780) 265(2225,-760) 266(2225,-740) 267(2225,-720) 268(2225,-700) 269(2225,-680) 270(2225,-660) 271(2225,-640) 272(2225,-620) 273(2225,-600) 274(2225,-580) 275(2225,-560) 276(2225,-540) 277(2225,-520) 278(2225,-500) 279(2225,-480) 280(2225,-460) 281(2225,-440) 282(2225,-420) 283(2225,-400) 284(2225,-380) 285(2225,-360) 286(2225,-340) 287(2225,-320) 288(2225,-300) 289(2225,-280) 290(2225,-260) 291(2225,-240) 292(2225,-220) 293(2225,-200) 294(2225,-180) 295(2225,-160) 296(2225,-140) 297(2225,-120) 298(2225,-100) 299(2225,-80) 300(2225,-60) 301(2225,-40) 302(2225,-20) 303(2225,0)
  oval 12x75 smd: 102(113,-2112) 103(133,-2112) 104(153,-2112) 105(173,-2112) 106(193,-2112) 107(213,-2112) 108(233,-2112) 109(253,-2112) 110(273,-2112) 111(293,-2112) 112(313,-2112) 113(333,-2112) 114(353,-2112) 115(373,-2112) 116(393,-2112) 117(413,-2112) 118(433,-2112) 119(453,-2112) 120(473,-2112) 121(493,-2112) 122(513,-2112) 123(533,-2112) 124(553,-2112) 125(573,-2112) 126(593,-2112) 127(613,-2112) 128(633,-2112) 129(653,-2112) 130(673,-2112) 131(693,-2112) 132(713,-2112) 133(733,-2112) 134(753,-2112) 135(773,-2112) 136(793,-2112) 137(813,-2112) 138(833,-2112) 139(853,-2112) 140(873,-2112) 141(893,-2112) 142(913,-2112) 143(933,-2112) 144(953,-2112) 145(973,-2112) 146(993,-2112) 147(1013,-2112) 148(1033,-2112) 149(1053,-2112) 150(1073,-2112) 151(1093,-2112) 152(1113,-2112) 153(1133,-2112) 154(1153,-2112) 155(1173,-2112) 156(1193,-2112) 157(1213,-2112) 158(1233,-2112) 159(1253,-2112) 160(1273,-2112) 161(1293,-2112) 162(1313,-2112) 163(1333,-2112) 164(1353,-2112) 165(1373,-2112) 166(1393,-2112) 167(1413,-2112) 168(1433,-2112) 169(1453,-2112) 170(1473,-2112) 171(1493,-2112) 172(1513,-2112) 173(1533,-2112) 174(1553,-2112) 175(1573,-2112) 176(1593,-2112) 177(1613,-2112) 178(1633,-2112) 179(1653,-2112) 180(1673,-2112) 181(1693,-2112) 182(1713,-2112) 183(1733,-2112) 184(1753,-2112) 185(1773,-2112) 186(1793,-2112) 187(1813,-2112) 188(1833,-2112) 189(1853,-2112) 190(1873,-2112) 191(1893,-2112) 192(1913,-2112) 193(1933,-2112) 194(1953,-2112) 195(1973,-2112) 196(1993,-2112) 197(2013,-2112) 198(2033,-2112) 199(2053,-2112) 200(2073,-2112) 201(2093,-2112) 202(2113,-2112) 304(2113,113) 305(2093,113) 306(2073,113) 307(2053,113) 308(2033,113) 309(2013,113) 310(1993,113) 311(1973,113) 312(1953,113) 313(1933,113) 314(1913,113) 315(1893,113) 316(1873,113) 317(1853,113) 318(1833,113) 319(1813,113) 320(1793,113) 321(1773,113) 322(1753,113) 323(1733,113) 324(1713,113) 325(1693,113) 326(1673,113) 327(1653,113) 328(1633,113) 329(1613,113) 330(1593,113) 331(1573,113) 332(1553,113) 333(1533,113) 334(1513,113) 335(1493,113) 336(1473,113) 337(1453,113) 338(1433,113) 339(1413,113) 340(1393,113) 341(1373,113) 342(1353,113) 343(1333,113) 344(1313,113) 345(1293,113) 346(1273,113) 347(1253,113) 348(1233,113) 349(1213,113) 350(1193,113) 351(1173,113) 352(1153,113) 353(1133,113) 354(1113,113) 355(1093,113) 356(1073,113) 357(1053,113) 358(1033,113) 359(1013,113) 360(993,113) 361(973,113) 362(953,113) 363(933,113) 364(913,113) 365(893,113) 366(873,113) 367(853,113) 368(833,113) 369(813,113) 370(793,113) 371(773,113) 372(753,113) 373(733,113) 374(713,113) 375(693,113) 376(673,113) 377(653,113) 378(633,113) 379(613,113) 380(593,113) 381(573,113) 382(553,113) 383(533,113) 384(513,113) 385(493,113) 386(473,113) 387(453,113) 388(433,113) 389(413,113) 390(393,113) 391(373,113) 392(353,113) 393(333,113) 394(313,113) 395(293,113) 396(273,113) 397(253,113) 398(233,113) 399(213,113) 400(193,113) 401(173,113) 402(153,113) 403(133,113) 404(113,113)

## TAPE428-15 [mil]
pads (428):
  oval 75x8 smd: 1(0,0) 2(0,-15) 3(0,-30) 4(0,-45) 5(0,-60) 6(0,-75) 7(0,-90) 8(0,-105) 9(0,-120) 10(0,-135) 11(0,-150) 12(0,-165) 13(0,-180) 14(0,-195) 15(0,-210) 16(0,-225) 17(0,-240) 18(0,-255) 19(0,-270) 20(0,-285) 21(0,-300) 22(0,-315) 23(0,-330) 24(0,-345) 25(0,-360) 26(0,-375) 27(0,-390) 28(0,-405) 29(0,-420) 30(0,-435) 31(0,-450) 32(0,-465) 33(0,-480) 34(0,-495) 35(0,-510) 36(0,-525) 37(0,-540) 38(0,-555) 39(0,-570) 40(0,-585) 41(0,-600) 42(0,-615) 43(0,-630) 44(0,-645) 45(0,-660) 46(0,-675) 47(0,-690) 48(0,-705) 49(0,-720) 50(0,-735) 51(0,-750) 52(0,-765) 53(0,-780) 54(0,-795) 55(0,-810) 56(0,-825) 57(0,-840) 58(0,-855) 59(0,-870) 60(0,-885) 61(0,-900) 62(0,-915) 63(0,-930) 64(0,-945) 65(0,-960) 66(0,-975) 67(0,-990) 68(0,-1005) 69(0,-1020) 70(0,-1035) 71(0,-1050) 72(0,-1065) 73(0,-1080) 74(0,-1095) 75(0,-1110) 76(0,-1125) 77(0,-1140) 78(0,-1155) 79(0,-1170) 80(0,-1185) 81(0,-1200) 82(0,-1215) 83(0,-1230) 84(0,-1245) 85(0,-1260) 86(0,-1275) 87(0,-1290) 88(0,-1305) 89(0,-1320) 90(0,-1335) 91(0,-1350) 92(0,-1365) 93(0,-1380) 94(0,-1395) 95(0,-1410) 96(0,-1425) 97(0,-1440) 98(0,-1455) 99(0,-1470) 100(0,-1485) 101(0,-1500) 102(0,-1515) 103(0,-1530) 104(0,-1545) 105(0,-1560) 106(0,-1575) 107(0,-1590) 215(1825,-1590) 216(1825,-1575) 217(1825,-1560) 218(1825,-1545) 219(1825,-1530) 220(1825,-1515) 221(1825,-1500) 222(1825,-1485) 223(1825,-1470) 224(1825,-1455) 225(1825,-1440) 226(1825,-1425) 227(1825,-1410) 228(1825,-1395) 229(1825,-1380) 230(1825,-1365) 231(1825,-1350) 232(1825,-1335) 233(1825,-1320) 234(1825,-1305) 235(1825,-1290) 236(1825,-1275) 237(1825,-1260) 238(1825,-1245) 239(1825,-1230) 240(1825,-1215) 241(1825,-1200) 242(1825,-1185) 243(1825,-1170) 244(1825,-1155) 245(1825,-1140) 246(1825,-1125) 247(1825,-1110) 248(1825,-1095) 249(1825,-1080) 250(1825,-1065) 251(1825,-1050) 252(1825,-1035) 253(1825,-1020) 254(1825,-1005) 255(1825,-990) 256(1825,-975) 257(1825,-960) 258(1825,-945) 259(1825,-930) 260(1825,-915) 261(1825,-900) 262(1825,-885) 263(1825,-870) 264(1825,-855) 265(1825,-840) 266(1825,-825) 267(1825,-810) 268(1825,-795) 269(1825,-780) 270(1825,-765) 271(1825,-750) 272(1825,-735) 273(1825,-720) 274(1825,-705) 275(1825,-690) 276(1825,-675) 277(1825,-660) 278(1825,-645) 279(1825,-630) 280(1825,-615) 281(1825,-600) 282(1825,-585) 283(1825,-570) 284(1825,-555) 285(1825,-540) 286(1825,-525) 287(1825,-510) 288(1825,-495) 289(1825,-480) 290(1825,-465) 291(1825,-450) 292(1825,-435) 293(1825,-420) 294(1825,-405) 295(1825,-390) 296(1825,-375) 297(1825,-360) 298(1825,-345) 299(1825,-330) 300(1825,-315) 301(1825,-300) 302(1825,-285) 303(1825,-270) 304(1825,-255) 305(1825,-240) 306(1825,-225) 307(1825,-210) 308(1825,-195) 309(1825,-180) 310(1825,-165) 311(1825,-150) 312(1825,-135) 313(1825,-120) 314(1825,-105) 315(1825,-90) 316(1825,-75) 317(1825,-60) 318(1825,-45) 319(1825,-30) 320(1825,-15) 321(1825,0)
  oval 8x75 smd: 108(118,-1707) 109(133,-1707) 110(148,-1707) 111(163,-1707) 112(178,-1707) 113(193,-1707) 114(208,-1707) 115(223,-1707) 116(238,-1707) 117(253,-1707) 118(268,-1707) 119(283,-1707) 120(298,-1707) 121(313,-1707) 122(328,-1707) 123(343,-1707) 124(358,-1707) 125(373,-1707) 126(388,-1707) 127(403,-1707) 128(418,-1707) 129(433,-1707) 130(448,-1707) 131(463,-1707) 132(478,-1707) 133(493,-1707) 134(508,-1707) 135(523,-1707) 136(538,-1707) 137(553,-1707) 138(568,-1707) 139(583,-1707) 140(598,-1707) 141(613,-1707) 142(628,-1707) 143(643,-1707) 144(658,-1707) 145(673,-1707) 146(688,-1707) 147(703,-1707) 148(718,-1707) 149(733,-1707) 150(748,-1707) 151(763,-1707) 152(778,-1707) 153(793,-1707) 154(808,-1707) 155(823,-1707) 156(838,-1707) 157(853,-1707) 158(868,-1707) 159(883,-1707) 160(898,-1707) 161(913,-1707) 162(928,-1707) 163(943,-1707) 164(958,-1707) 165(973,-1707) 166(988,-1707) 167(1003,-1707) 168(1018,-1707) 169(1033,-1707) 170(1048,-1707) 171(1063,-1707) 172(1078,-1707) 173(1093,-1707) 174(1108,-1707) 175(1123,-1707) 176(1138,-1707) 177(1153,-1707) 178(1168,-1707) 179(1183,-1707) 180(1198,-1707) 181(1213,-1707) 182(1228,-1707) 183(1243,-1707) 184(1258,-1707) 185(1273,-1707) 186(1288,-1707) 187(1303,-1707) 188(1318,-1707) 189(1333,-1707) 190(1348,-1707) 191(1363,-1707) 192(1378,-1707) 193(1393,-1707) 194(1408,-1707) 195(1423,-1707) 196(1438,-1707) 197(1453,-1707) 198(1468,-1707) 199(1483,-1707) 200(1498,-1707) 201(1513,-1707) 202(1528,-1707) 203(1543,-1707) 204(1558,-1707) 205(1573,-1707) 206(1588,-1707) 207(1603,-1707) 208(1618,-1707) 209(1633,-1707) 210(1648,-1707) 211(1663,-1707) 212(1678,-1707) 213(1693,-1707) 214(1708,-1707) 322(1708,118) 323(1693,118) 324(1678,118) 325(1663,118) 326(1648,118) 327(1633,118) 328(1618,118) 329(1603,118) 330(1588,118) 331(1573,118) 332(1558,118) 333(1543,118) 334(1528,118) 335(1513,118) 336(1498,118) 337(1483,118) 338(1468,118) 339(1453,118) 340(1438,118) 341(1423,118) 342(1408,118) 343(1393,118) 344(1378,118) 345(1363,118) 346(1348,118) 347(1333,118) 348(1318,118) 349(1303,118) 350(1288,118) 351(1273,118) 352(1258,118) 353(1243,118) 354(1228,118) 355(1213,118) 356(1198,118) 357(1183,118) 358(1168,118) 359(1153,118) 360(1138,118) 361(1123,118) 362(1108,118) 363(1093,118) 364(1078,118) 365(1063,118) 366(1048,118) 367(1033,118) 368(1018,118) 369(1003,118) 370(988,118) 371(973,118) 372(958,118) 373(943,118) 374(928,118) 375(913,118) 376(898,118) 377(883,118) 378(868,118) 379(853,118) 380(838,118) 381(823,118) 382(808,118) 383(793,118) 384(778,118) 385(763,118) 386(748,118) 387(733,118) 388(718,118) 389(703,118) 390(688,118) 391(673,118) 392(658,118) 393(643,118) 394(628,118) 395(613,118) 396(598,118) 397(583,118) 398(568,118) 399(553,118) 400(538,118) 401(523,118) 402(508,118) 403(493,118) 404(478,118) 405(463,118) 406(448,118) 407(433,118) 408(418,118) 409(403,118) 410(388,118) 411(373,118) 412(358,118) 413(343,118) 414(328,118) 415(313,118) 416(298,118) 417(283,118) 418(268,118) 419(253,118) 420(238,118) 421(223,118) 422(208,118) 423(193,118) 424(178,118) 425(163,118) 426(148,118) 427(133,118) 428(118,118)